# Altium schematic symbol library OSC.SchLib: 1 symbol
Pins are listed as number, name and electrical type; pins without a type are passive.

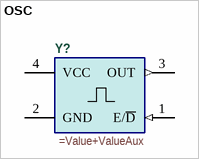
[diagram p0: symbol OSC]

## OSC
designator Y?
=Description
pins: 1 E/~{D} (in), 2 GND (power), 3 OUT (out), 4 VCC (power)